# Altium footprint library USB_C_16P.PcbLib: 1 footprints
Each footprint in its own frame and in the unit in brackets; x right, y up, seen from the top. Pads: shape width x height; smd on the part's side, far side on the other; paste and mask are expansions set on the pad; w line width, h text height; cw(c..) or ccw(c..) is an arc to the next point about the centre after c.
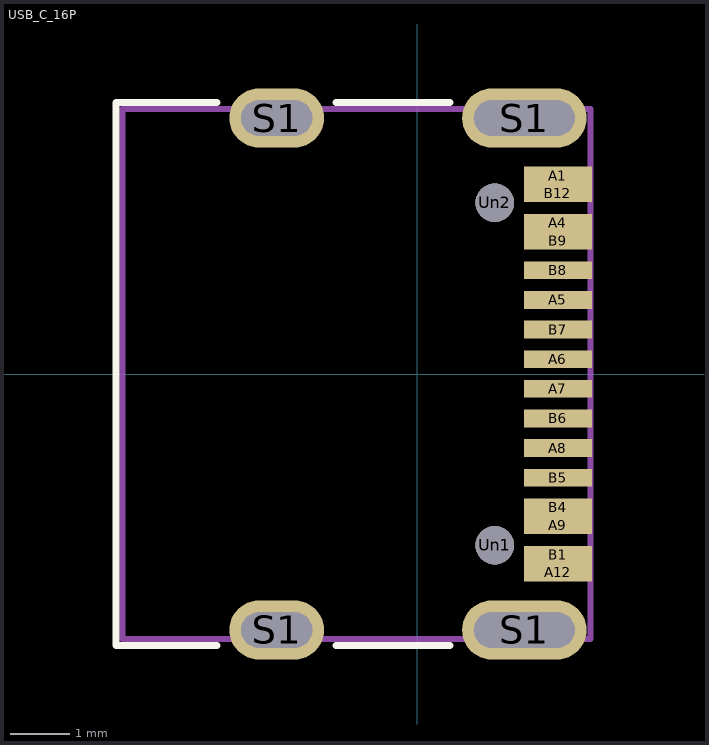
[diagram p0: the footprint, top view; thin cyan lines are the x and y axes]

## USB_C_16P [mm]
pads (22):
  rect 1.15x0.3 smd mask+0.102: A1(2.373,3.35) A4(2.373,2.55) A5(2.373,1.25) A6(2.373,0.25) A7(2.373,-0.25) A8(2.373,-1.25) A9(2.373,-2.55) A12(2.373,-3.35) B1(2.373,-3.05) B4(2.373,-2.25) B5(2.373,-1.75) B6(2.373,-0.75) B7(2.373,0.75) B8(2.373,1.75) B9(2.373,2.25) B12(2.373,3.05)
  rrect100% 1.6x1 hole 1.2 slot 0.6 at 90 deg: S1(-2.372,-4.32) S1(-2.372,4.32)
  rrect100% 2.1x1 hole 1.7 slot 0.6 at 90 deg: S1(1.808,-4.32) S1(1.808,4.32)
  round 0.65 hole 0.65 paste-0.65 mask+0: Un1(1.308,-2.89) Un2(1.308,2.89)
Top Overlay:
  lines w0.12: -3.377,-4.58 -5.082,-4.58 -5.082,4.58 -3.377,4.58 ; -1.367,-4.58 0.553,-4.58 ; -1.367,4.58 0.553,4.58
Mechanical 1:
  lines w0.1: -4.972,-4.47 2.921,-4.47 2.921,4.47 -4.972,4.47 -4.972,-4.47
  text ".Designator" at -0.127,-0.066 h1
Mechanical 15:
  text "+" at -1,-1.5 h3
3D body "USB Type C Port (SMD Type).STEP": height 3.26, standoff -0.94, extent -5.014,-4.47 2.886,4.47